# Altium footprint library Hello.PcbLib: 234 footprints (part 5 of 15)
Each footprint in its own frame and in the unit in brackets; x right, y up, seen from the top. Pads: shape width x height; smd on the part's side, far side on the other; paste and mask are expansions set on the pad; w line width, h text height; cw(c..) or ccw(c..) is an arc to the next point about the centre after c.
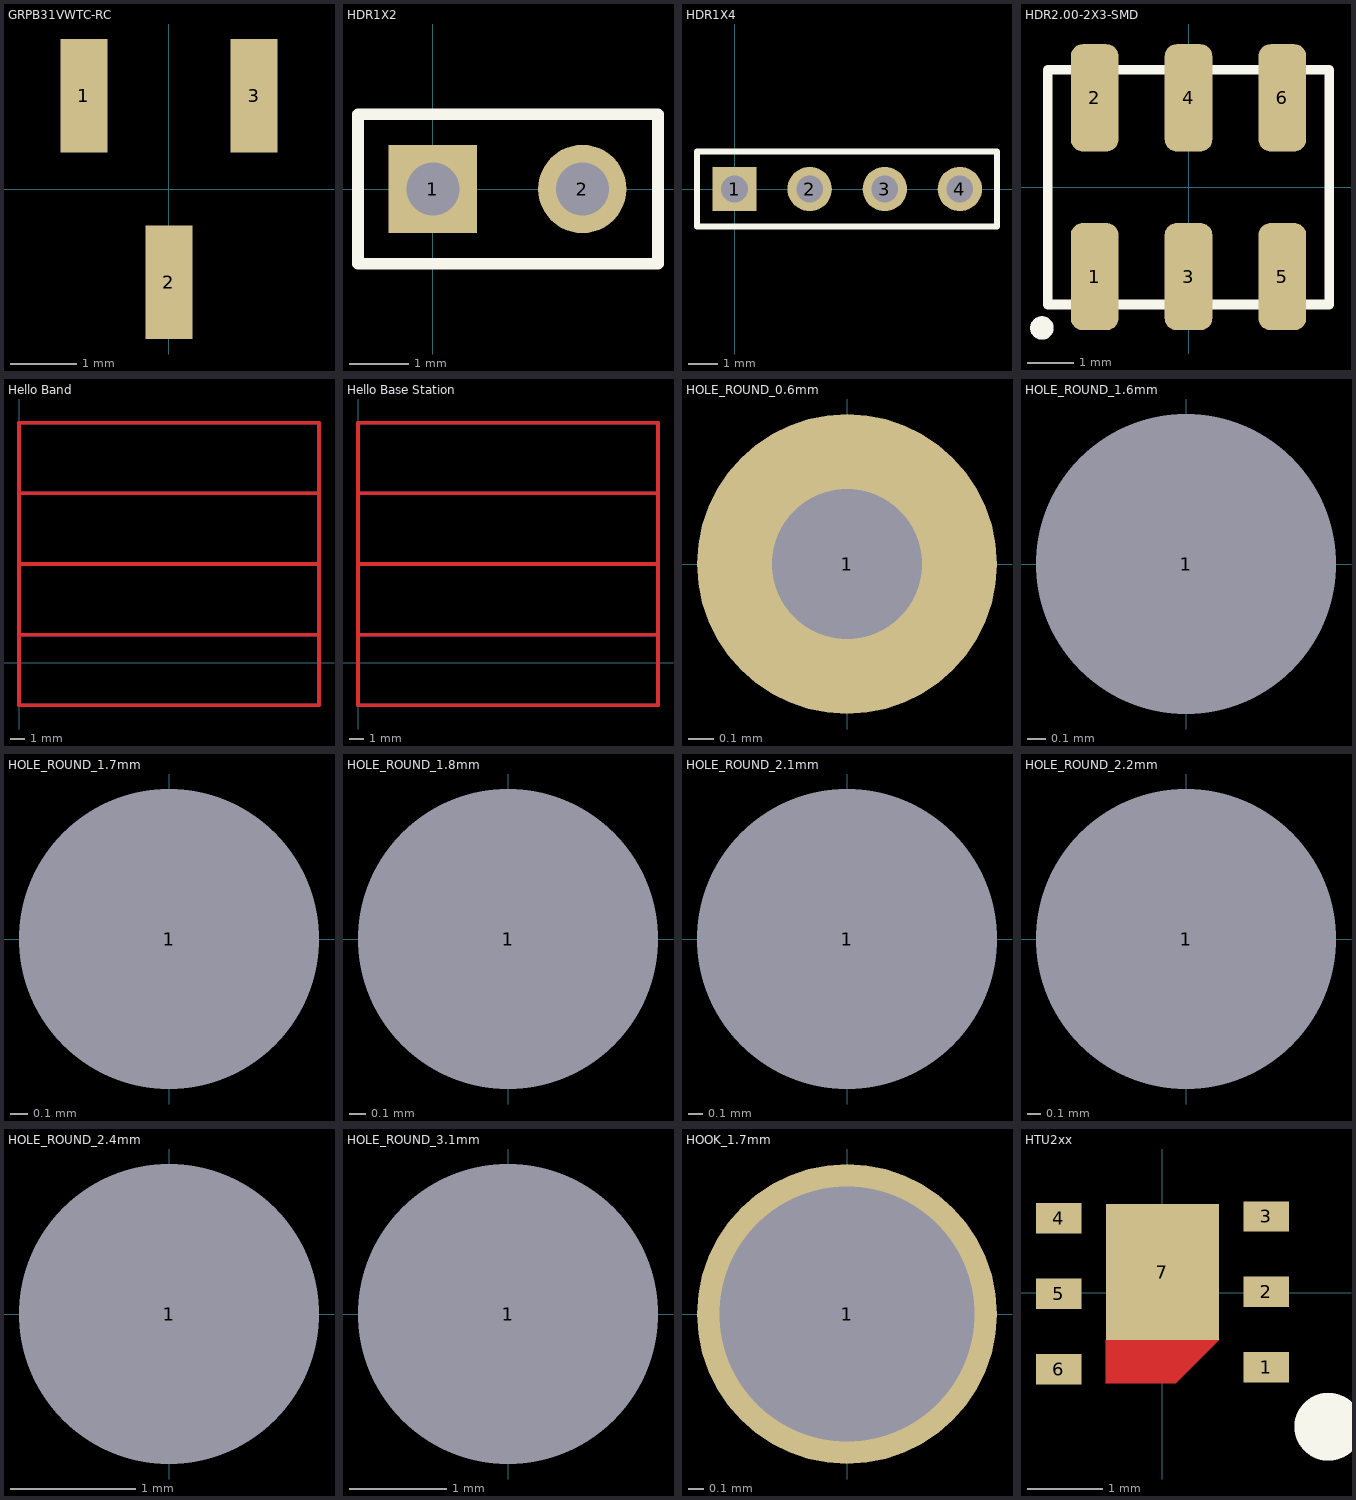
[diagram p4: the footprints below, top view; thin cyan lines are the x and y axes]

## GRPB31VWTC-RC [mm] "3-pin header SMD"
height 5.1
pads (3):
  rect 0.71x1.7 smd: 1(-1.275,1.4) 2(0,-1.4) 3(1.275,1.4)
3D body: height 5.1, standoff 0, extent -1.9,-1.075 1.9,1.075

## HDR1X2 [mm] "Connector; Header; 2 Position"
pads (2):
  rect 1.5x1.5 hole 0.9: 1(0,0)
  round 1.5 hole 0.9: 2(2.54,0)
Top Overlay:
  lines w0.2: -1.27,-1.27 3.825,-1.27 3.825,1.27 -1.27,1.27 -1.27,-1.27
3D body: height 8.54, standoff -3, extent -1.27,-1.245 3.81,1.245

## HDR1X4 [mm] "Connector; Header; 4 Position"
pads (4):
  rect 1.5x1.5 hole 0.9: 1(0,0)
  round 1.5 hole 0.9: 2(2.54,0) 3(5.08,0) 4(7.62,0)
Top Overlay:
  lines w0.2: -1.27,-1.27 8.875,-1.27 8.875,1.27 -1.27,1.27 -1.27,-1.27
3D body: height 8.54, standoff -3, extent -1.27,-1.245 8.89,1.245

## HDR2.00-2X3-SMD [mil] "HEADER, 2X3, 2.00MM PITCH, VERT 3.5MM, LEOCO 2018"
height 78.74
pads (6):
  rrect50% 40x90 smd: 1(-78.74,-75) 2(-78.74,75) 3(0,-75) 4(0,75) 5(78.74,-75) 6(78.74,75)
Top Overlay:
  circle w9.84: c-123.03,-118.11 r4.92
  lines w8: -118.11,-98.43 118.11,-98.43 118.11,98.43 -118.11,98.43 -118.11,-98.43
3D body: height 263.78, standoff 0, extent -118.11,-127.95 118.11,127.95

## Hello Band [mm] "Hello Band Identifcation Block"
Top Layer:
  lines w0.254: -0.025,2 21.158,2 ; -0.025,16.992 -0.025,12 ; -0.025,17 21.2,17 ; 0.025,7 21.184,7 ; 21.2,16.975 21.2,12 ; -0.025,12 -0.025,-3 21.2,-3 21.2,12 ; -0.025,12 21.2,12
  text "Title:" at 0.305,10.135 h1.52
  text "Band" at 8.026,7.798 h1.52
  text "Revision:" at 0.381,5.08 h1.52
  text "EVT3" at 8.026,2.667 h1.52
  text "Company:" at 0.33,15.138 h1.52
  text "Hello Inc" at 8.026,12.649 h1.52
  text "Drawn by:" at 0.432,0.025 h1.52
  text "J. Kelley" at 8.001,-2.464 h1.52
Bottom Layer:
  lines w0.254: -0.025,2 21.158,2 ; -0.025,16.992 -0.025,12 ; -0.025,17 21.2,17 ; 0.025,7 21.183,7 ; 21.2,16.975 21.2,12 ; -0.025,12 21.2,12 ; -0.025,12 -0.025,-3 21.2,-3 21.2,12
  text "J. Kelley" at 8.001,-2.464 h1.52
  text "Drawn by:" at 0.431,0.025 h1.52
  text "Hello Inc" at 8.026,12.649 h1.52
  text "Company:" at 0.33,15.138 h1.52
  text "EVT3" at 8.026,2.667 h1.52
  text "Revision:" at 0.381,5.08 h1.52
  text "Band" at 8.026,7.798 h1.52
  text "Title:" at 0.304,10.135 h1.52
Top Paste:
  lines w0.254: -0.025,2 21.158,2 ; -0.025,16.992 -0.025,12 ; -0.025,17 21.2,17 ; 0.025,7 21.183,7 ; 21.2,16.975 21.2,12 ; -0.025,12 21.2,12 ; -0.025,12 -0.025,-3 21.2,-3 21.2,12
  text "J. Kelley" at 8.001,-2.464 h1.52
  text "Drawn by:" at 0.431,0.025 h1.52
  text "Hello Inc" at 8.026,12.649 h1.52
  text "Company:" at 0.33,15.138 h1.52
  text "EVT3" at 8.026,2.667 h1.52
  text "Revision:" at 0.381,5.08 h1.52
  text "Band" at 8.026,7.798 h1.52
  text "Title:" at 0.304,10.135 h1.52
Bottom Paste:
  lines w0.254: -0.025,2 21.158,2 ; -0.025,16.992 -0.025,12 ; -0.025,17 21.2,17 ; 0.025,7 21.183,7 ; 21.2,16.975 21.2,12 ; -0.025,12 21.2,12 ; -0.025,12 -0.025,-3 21.2,-3 21.2,12
  text "J. Kelley" at 8.001,-2.464 h1.52
  text "Drawn by:" at 0.431,0.025 h1.52
  text "Hello Inc" at 8.026,12.649 h1.52
  text "Company:" at 0.33,15.138 h1.52
  text "EVT3" at 8.026,2.667 h1.52
  text "Revision:" at 0.381,5.08 h1.52
  text "Band" at 8.026,7.798 h1.52
  text "Title:" at 0.304,10.135 h1.52
Top Solder:
  lines w0.254: -0.025,2 21.158,2 ; -0.025,16.992 -0.025,12 ; -0.025,17 21.2,17 ; 0.025,7 21.183,7 ; 21.2,16.975 21.2,12 ; -0.025,12 21.2,12 ; -0.025,12 -0.025,-3 21.2,-3 21.2,12
  text "J. Kelley" at 8.001,-2.464 h1.52
  text "Drawn by:" at 0.431,0.025 h1.52
  text "Hello Inc" at 8.026,12.649 h1.52
  text "Company:" at 0.33,15.138 h1.52
  text "EVT3" at 8.026,2.667 h1.52
  text "Revision:" at 0.381,5.08 h1.52
  text "Band" at 8.026,7.798 h1.52
  text "Title:" at 0.304,10.135 h1.52
Bottom Solder:
  lines w0.254: -0.025,2 21.158,2 ; -0.025,16.992 -0.025,12 ; -0.025,17 21.2,17 ; 0.025,7 21.183,7 ; 21.2,16.975 21.2,12 ; -0.025,12 21.2,12 ; -0.025,12 -0.025,-3 21.2,-3 21.2,12
  text "J. Kelley" at 8.001,-2.464 h1.52
  text "Drawn by:" at 0.431,0.025 h1.52
  text "Hello Inc" at 8.026,12.649 h1.52
  text "Company:" at 0.33,15.138 h1.52
  text "EVT3" at 8.026,2.667 h1.52
  text "Revision:" at 0.381,5.08 h1.52
  text "Band" at 8.026,7.798 h1.52
  text "Title:" at 0.304,10.135 h1.52
Drill Drawing:
  lines w0.254: -0.025,2 21.158,2 ; -0.025,16.992 -0.025,12 ; -0.025,17 21.2,17 ; 0.025,7 21.183,7 ; 21.2,16.975 21.2,12 ; -0.025,12 21.2,12 ; -0.025,12 -0.025,-3 21.2,-3 21.2,12
  text "J. Kelley" at 8.001,-2.464 h1.52
  text "Drawn by:" at 0.431,0.025 h1.52
  text "Hello Inc" at 8.026,12.649 h1.52
  text "Company:" at 0.33,15.138 h1.52
  text "EVT3" at 8.026,2.667 h1.52
  text "Revision:" at 0.381,5.08 h1.52
  text "Band" at 8.026,7.798 h1.52
  text "Title:" at 0.304,10.135 h1.52

## Hello Base Station [mm] "Hello Base Station Identifcation Block"
Top Layer:
  lines w0.254: -0.025,2 21.158,2 ; -0.025,16.992 -0.025,12 ; -0.025,17 21.2,17 ; 0.025,7 21.184,7 ; 21.2,16.975 21.2,12 ; -0.025,12 -0.025,-3 21.2,-3 21.2,12 ; -0.025,12 21.2,12
  text "Title:" at 0.305,10.135 h1.52
  text "Base Station" at 2,7.798 h1.52
  text "Revision:" at 0.381,5.08 h1.52
  text "EVT1" at 8.026,2.667 h1.52
  text "Company:" at 0.33,15.138 h1.52
  text "Hello Inc" at 8.026,12.649 h1.52
  text "Drawn by:" at 0.432,0.025 h1.52
  text "D. Fusi" at 8.001,-2.464 h1.52
Bottom Layer:
  lines w0.254: -0.025,2 21.158,2 ; -0.025,16.992 -0.025,12 ; -0.025,17 21.2,17 ; 0.025,7 21.183,7 ; 21.2,16.975 21.2,12 ; -0.025,12 21.2,12 ; -0.025,12 -0.025,-3 21.2,-3 21.2,12
  text "D. Fusi" at 8.001,-2.464 h1.52
  text "Drawn by:" at 0.431,0.025 h1.52
  text "Hello Inc" at 8.026,12.649 h1.52
  text "Company:" at 0.33,15.138 h1.52
  text "EVT1" at 8.026,2.667 h1.52
  text "Revision:" at 0.381,5.08 h1.52
  text "Base Station" at 2,7.798 h1.52
  text "Title:" at 0.304,10.135 h1.52
Top Paste:
  lines w0.254: -0.025,2 21.158,2 ; -0.025,16.992 -0.025,12 ; -0.025,17 21.2,17 ; 0.025,7 21.183,7 ; 21.2,16.975 21.2,12 ; -0.025,12 21.2,12 ; -0.025,12 -0.025,-3 21.2,-3 21.2,12
  text "D. Fusi" at 8.001,-2.464 h1.52
  text "Drawn by:" at 0.431,0.025 h1.52
  text "Hello Inc" at 8.026,12.649 h1.52
  text "Company:" at 0.33,15.138 h1.52
  text "EVT1" at 8.026,2.667 h1.52
  text "Revision:" at 0.381,5.08 h1.52
  text "Base Station" at 2,7.798 h1.52
  text "Title:" at 0.304,10.135 h1.52
Bottom Paste:
  lines w0.254: -0.025,2 21.158,2 ; -0.025,16.992 -0.025,12 ; -0.025,17 21.2,17 ; 0.025,7 21.183,7 ; 21.2,16.975 21.2,12 ; -0.025,12 21.2,12 ; -0.025,12 -0.025,-3 21.2,-3 21.2,12
  text "D. Fusi" at 8.001,-2.464 h1.52
  text "Drawn by:" at 0.431,0.025 h1.52
  text "Hello Inc" at 8.026,12.649 h1.52
  text "Company:" at 0.33,15.138 h1.52
  text "EVT1" at 8.026,2.667 h1.52
  text "Revision:" at 0.381,5.08 h1.52
  text "Base Station" at 2,7.798 h1.52
  text "Title:" at 0.304,10.135 h1.52
Top Solder:
  lines w0.254: -0.025,2 21.158,2 ; -0.025,16.992 -0.025,12 ; -0.025,17 21.2,17 ; 0.025,7 21.183,7 ; 21.2,16.975 21.2,12 ; -0.025,12 21.2,12 ; -0.025,12 -0.025,-3 21.2,-3 21.2,12
  text "D. Fusi" at 8.001,-2.464 h1.52
  text "Drawn by:" at 0.431,0.025 h1.52
  text "Hello Inc" at 8.026,12.649 h1.52
  text "Company:" at 0.33,15.138 h1.52
  text "EVT1" at 8.026,2.667 h1.52
  text "Revision:" at 0.381,5.08 h1.52
  text "Base Station" at 2,7.798 h1.52
  text "Title:" at 0.304,10.135 h1.52
Bottom Solder:
  lines w0.254: -0.025,2 21.158,2 ; -0.025,16.992 -0.025,12 ; -0.025,17 21.2,17 ; 0.025,7 21.183,7 ; 21.2,16.975 21.2,12 ; -0.025,12 21.2,12 ; -0.025,12 -0.025,-3 21.2,-3 21.2,12
  text "D. Fusi" at 8.001,-2.464 h1.52
  text "Drawn by:" at 0.431,0.025 h1.52
  text "Hello Inc" at 8.026,12.649 h1.52
  text "Company:" at 0.33,15.138 h1.52
  text "EVT1" at 8.026,2.667 h1.52
  text "Revision:" at 0.381,5.08 h1.52
  text "Base Station" at 2,7.798 h1.52
  text "Title:" at 0.304,10.135 h1.52
Drill Drawing:
  lines w0.254: -0.025,2 21.158,2 ; -0.025,16.992 -0.025,12 ; -0.025,17 21.2,17 ; 0.025,7 21.183,7 ; 21.2,16.975 21.2,12 ; -0.025,12 21.2,12 ; -0.025,12 -0.025,-3 21.2,-3 21.2,12
  text "D. Fusi" at 8.001,-2.464 h1.52
  text "Drawn by:" at 0.431,0.025 h1.52
  text "Hello Inc" at 8.026,12.649 h1.52
  text "Company:" at 0.33,15.138 h1.52
  text "EVT1" at 8.026,2.667 h1.52
  text "Revision:" at 0.381,5.08 h1.52
  text "Base Station" at 2,7.798 h1.52
  text "Title:" at 0.304,10.135 h1.52

## HOLE_ROUND_0.6mm [mm]
pads (1):
  round 1.2 hole 0.6: 1(0,0)

## HOLE_ROUND_1.6mm [mm]
pads (1):
  round 1.2 hole 1.6: 1(0,0)

## HOLE_ROUND_1.7mm [mm]
pads (1):
  round 1.2 hole 1.7: 1(0,0)

## HOLE_ROUND_1.8mm [mm]
pads (1):
  round 1.2 hole 1.8 paste-2 mask-2: 1(0,0)

## HOLE_ROUND_2.1mm [mm]
pads (1):
  round 1.2 hole 2.1: 1(0,0)

## HOLE_ROUND_2.2mm [mm]
pads (1):
  round 1.2 hole 2.2 paste-3 mask-3: 1(0,0)

## HOLE_ROUND_2.4mm [mm]
pads (1):
  round 1.2 hole 2.4: 1(0,0)

## HOLE_ROUND_3.1mm [mm]
pads (1):
  round 1.2 hole 3.1: 1(0,0)

## HOOK_1.7mm [mm] "Hook test point"
height 7
pads (1):
  round 2 hole 1.7: 1(0,0)
3D body: height 5.65, standoff -3.23, extent -1.587,-1.65 1.587,1.525

## HTU2xx [mm]
pads (7):
  rect 0.6x0.4 smd paste-0.05: 1(1.375,-0.987) 2(1.375,0.013) 3(1.375,1.013) 4(-1.375,0.988) 5(-1.375,-0.012) 6(-1.375,-1.012)
  rect 1.5x1.8 smd paste-0.05: 7(0,0.275)
Top Layer:
  region: -0.75,-0.625 -0.75,-1.2 0.175,-1.2 0.75,-0.625
Top Overlay:
  circle w0.7: c2.2,-1.775 r0.1
3D body: height 0.9, standoff 0, extent -1.5,-1.5 1.5,1.5